# EAGLE library part MSP430X11X1---PW20 (library MSP430F1xxx)
MSP430C1101IDW 1KB ROM/128B RAM MSP430C1111IDW 2KB ROM/128B RAM MSP430C1121IDW 4KB ROM/256B RAM MSP430F1101AIDW 1KB + 128B FlashMemory/128B RAM MSP430F1111AIDW 2KB + 256B FlashMemory/128B RAM MSP430F1121AIDW 4KB + 256B FlashMemory/256B RAM Package TSSOP-20(PW20)
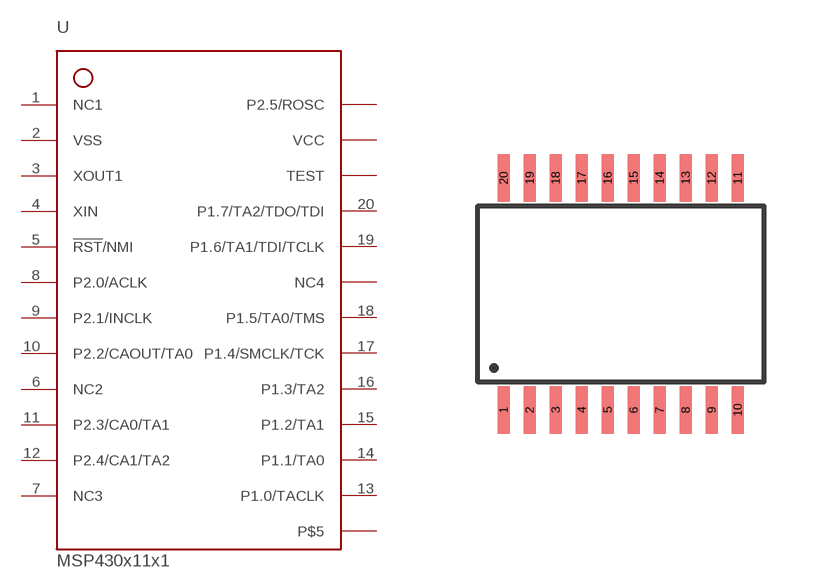
[diagram p3: symbol with the pads of PW20; footprint PW20]

Designator prefix -

## MSP430X11X1---PW20  [PW20]
1  NC1  nc
2  VSS  pwr
3  XOUT1  out
4  XIN  in
5  !RST!/NMI  in
6  NC2  nc
7  NC3  nc
8  P2.0/ACLK
9  P2.1/INCLK
10  P2.2/CAOUT/TA0
11  P2.3/CA0/TA1
12  P2.4/CA1/TA2
13  P1.0/TACLK
14  P1.1/TA0
15  P1.2/TA1
16  P1.3/TA2
17  P1.4/SMCLK/TCK
18  P1.5/TA0/TMS
19  P1.6/TA1/TDI/TCLK
20  P1.7/TA2/TDO/TDI

## Footprint PW20 (pad centres in mm)
*** TI: PW *** JEDEC: R-PDSO-G20 *** 20 PINS ***
smd 0.3 x 1.2: 1 -2.925,-2.9; 2 -2.275,-2.9; 3 -1.625,-2.9; 4 -0.975,-2.9; 5 -0.325,-2.9; 6 0.325,-2.9; 7 0.975,-2.9; 8 1.625,-2.9; 9 2.275,-2.9; 10 2.925,-2.9; 11 2.925,2.9; 12 2.275,2.9; 13 1.625,2.9; 14 0.975,2.9; 15 0.325,2.9; 16 -0.325,2.9; 17 -0.975,2.9; 18 -1.625,2.9; 19 -2.275,2.9; 20 -2.925,2.9